# Altium footprint library PcbLib1.PcbLib: 1 footprints
Each footprint in its own frame and in the unit in brackets; x right, y up, seen from the top. Pads: shape width x height; smd on the part's side, far side on the other; paste and mask are expansions set on the pad; w line width, h text height; cw(c..) or ccw(c..) is an arc to the next point about the centre after c.
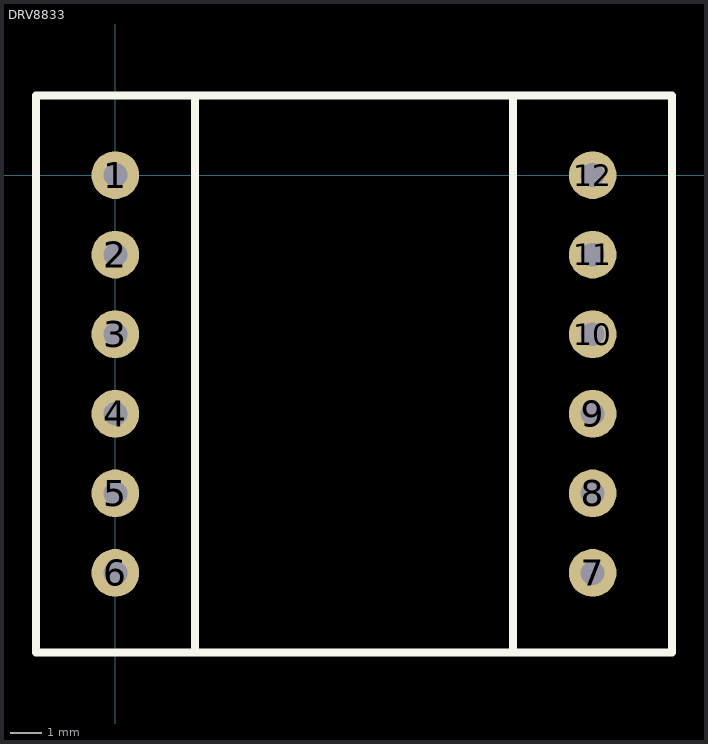
[diagram p0: the footprint, top view; thin cyan lines are the x and y axes]

## DRV8833 [mil]
pads (12):
  round 60 hole 30: 1(0,0) 2(0,-100) 3(0,-200) 4(0,-300) 5(0,-400) 6(0,-500) 7(600,-500) 8(600,-400) 9(600,-300) 10(600,-200) 11(600,-100) 12(600,0)
Top Overlay:
  lines w10: -100,-600 -100,100 ; -100,-600 700,-600 ; -100,-600 -100,100 ; -100,-600 100,-600 100,100 -100,100 ; -100,100 700,100 ; 700,-600 700,100 ; 700,-600 700,100 ; 700,-600 500,-600 500,100 700,100